# Altium schematic symbol library IndustrialConnectors.SchLib: 13 symbols
Pins are listed as number, name and electrical type; pins without a type are passive.

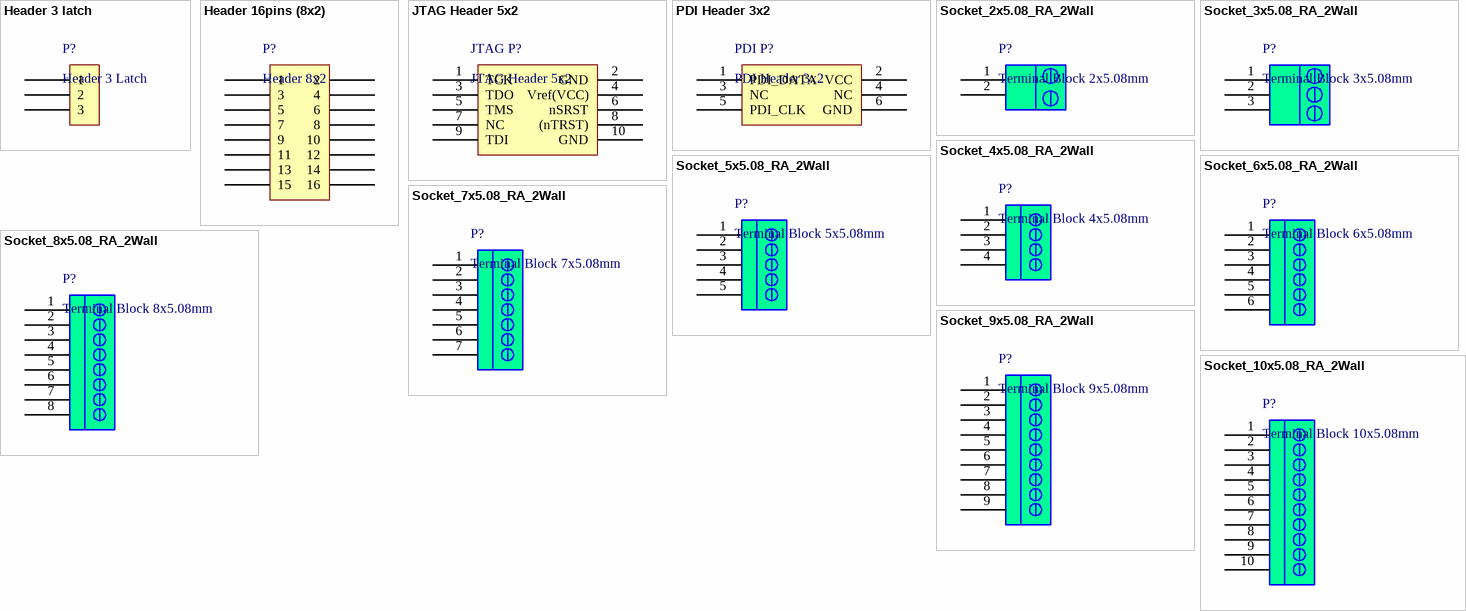
[diagram p0: symbols Header 3 latch to Socket_10x5.08_RA_2Wall]

## Header 3 latch
designator P?, comment Header 3 Latch
Header 3 with latch
footprint Header 3 latch
pins: 1, 2, 3

## Header 16pins (8x2)
designator P?, comment Header 8x2
Header 16pins (8x2) Hold Latch
footprint Header 8x2 HL
pins: 1, 2, 3, 4, 5, 6, 7, 8, 9, 10, 11, 12, 13, 14, 15, 16

## JTAG Header 5x2
designator JTAG P?
JTAG Interface connctor
footprint Header 5x2
pins: 1 TCK, 2 GND, 3 TDO, 4 Vref(VCC), 5 TMS, 6 nSRST, 7 NC, 8 (nTRST), 9 TDI, 10 GND

## PDI Header 3x2
designator PDI P?
PDI Interface connector
footprint Header 3x2
pins: 1 PDI_DATA, 2 VCC, 3 NC, 4 NC, 5 PDI_CLK, 6 GND

## Socket_2x5.08_RA_2Wall
designator P?, comment Terminal Block 2x5.08mm
Terminal Block Socket Right Angle 2x5.08mm 2 Wall
footprint Socket 2x5.08
pins: 1, 2

## Socket_3x5.08_RA_2Wall
designator P?, comment Terminal Block 3x5.08mm
Terminal Block Socket Right Angle 3x5.08mm 2-Wall
footprint Socket 3x5.08
pins: 1, 2, 3

## Socket_4x5.08_RA_2Wall
designator P?, comment Terminal Block 4x5.08mm
Terminal Block Socket Right Angle 4x5.08mm 2-Wall
footprint Socket 4x5.08
pins: 1, 2, 3, 4

## Socket_5x5.08_RA_2Wall
designator P?, comment Terminal Block 5x5.08mm
Terminal Block Socket Right Angle 5x5.08mm 2-Wall
footprint Socket 5x5.08
pins: 1, 2, 3, 4, 5

## Socket_6x5.08_RA_2Wall
designator P?, comment Terminal Block 6x5.08mm
Terminal Block Socket Right Angle 6x5.08mm 2-Wall
footprint Socket 6x5.08
pins: 1, 2, 3, 4, 5, 6

## Socket_7x5.08_RA_2Wall
designator P?, comment Terminal Block 7x5.08mm
Terminal block Socket Right Angle 7x5.08mm 2-Wall
footprint Socket 7x5.08
pins: 1, 2, 3, 4, 5, 6, 7

## Socket_8x5.08_RA_2Wall
designator P?, comment Terminal Block 8x5.08mm
Terminal Block Socket Right Angle 8x5.08mm 2-Wall
footprint SOCKET 8x5.08
pins: 1, 2, 3, 4, 5, 6, 7, 8

## Socket_9x5.08_RA_2Wall
designator P?, comment Terminal Block 9x5.08mm
Terminal Block Socket Right Angle 9x5.08mm 2-Wall
footprint Socket 9x5.08
pins: 1, 2, 3, 4, 5, 6, 7, 8, 9

## Socket_10x5.08_RA_2Wall
designator P?, comment Terminal Block 10x5.08mm
Terminal Block Socket Right Angle 10x5.08mm 2-Wall
footprint Socket 10x5.08
pins: 1, 2, 3, 4, 5, 6, 7, 8, 9, 10